# EAGLE library part TCA6424A (library kmod-testing)
24-Bit I2C IO expander http://www.ti.com/lit/ds/symlink/tca6424a.pdf http://www.digikey.com/product-detail/en/TCA6424ARGJR/296-27844-1-ND/2411683
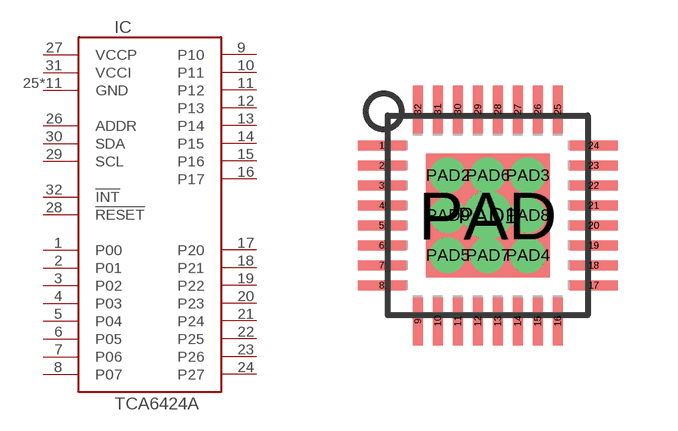
[diagram p16: symbol with the pads of QFN32; footprint QFN32]

Designator prefix IC

## TCA6424A  [QFN32]
1  P00
2  P01
3  P02
4  P03
5  P04
6  P05
7  P06
8  P07
9  P10
10  P11
11  P12
12  P13
13  P14
14  P15
15  P16
16  P17
17  P20
18  P21
19  P22
20  P23
21  P24
22  P25
23  P26
24  P27
25  GND
26  ADDR
27  VCCP
28  !RESET
29  SCL
30  SDA
31  VCCI
32  !INT
PAD  GND
PAD1  GND
PAD2  GND
PAD3  GND
PAD4  GND
PAD5  GND
PAD6  GND
PAD7  GND
PAD8  GND
PAD9  GND

## Footprint QFN32 (pad centres in mm)
32-pin, 0.5mm-pitch QFN Generated with gen_qfp.py with the following parameters: PAD_LENGTH = 1.2 PAD_PAST_END = 0.7 LEAD_INNER_WIDTH = 4.0 LEAD_OUTER_WIDTH = 5.0 LEAD_WIDTH = 0.24 Added thermal pad, and moved out pads slightly (0.05mm outwards), widened pads (0.22mm -> 0.25mm). Should be pretty compatible with this: http://www.ti.com/lit/ds/symlink/tca6424a.pdf
smd 1.2 x 0.25: 1 -2.65,1.75; 2 -2.65,1.25; 3 -2.65,0.75; 4 -2.65,0.25; 5 -2.65,-0.25; 6 -2.65,-0.75; 7 -2.65,-1.25; 8 -2.65,-1.75; 17 2.65,-1.75; 18 2.65,-1.25; 19 2.65,-0.75; 20 2.65,-0.25; 21 2.65,0.25; 22 2.65,0.75; 23 2.65,1.25; 24 2.65,1.75
smd 0.25 x 1.2: 9 -1.75,-2.65; 10 -1.25,-2.65; 11 -0.75,-2.65; 12 -0.25,-2.65; 13 0.25,-2.65; 14 0.75,-2.65; 15 1.25,-2.65; 16 1.75,-2.65; 25 1.75,2.65; 26 1.25,2.65; 27 0.75,2.65; 28 0.25,2.65; 29 -0.25,2.65; 30 -0.75,2.65; 31 -1.25,2.65; 32 -1.75,2.65
smd 3.1 x 3.1: PAD 0,0
drill 0.7 pad 1.2: PAD1 0,0
drill 0.381 pad 0.635: PAD2 -1,1; PAD3 1,1; PAD4 1,-1; PAD5 -1,-1; PAD6 0,1; PAD7 0,-1; PAD8 1,0; PAD9 -1,0